# EAGLE library part ADUM4150ARIZ (library ADUM4150ARIZ)
5kV, 6-Channel, SPIsolator Digital Isolator for SPI with Delay Clock Source: Datasheet <https://www.analog.com/ADUM4150/datasheet>
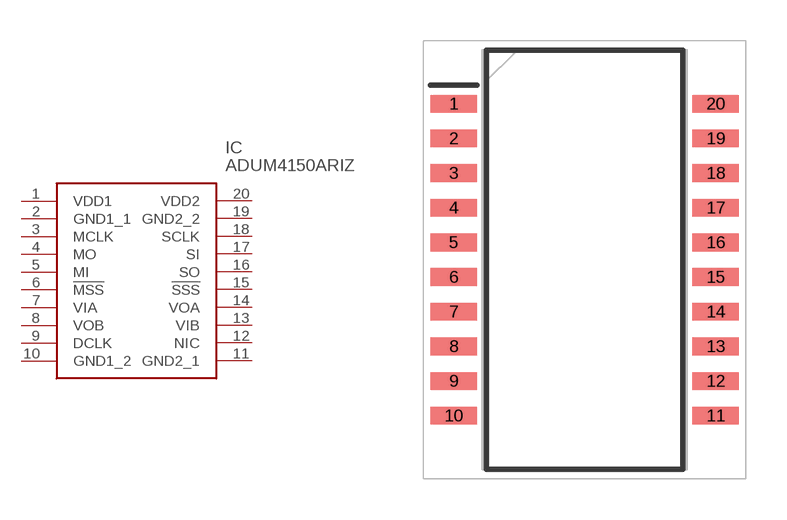
[diagram p0: symbol with the pads of SOIC127P1030X264-20N; footprint SOIC127P1030X264-20N]

Designator prefix IC

## ADUM4150ARIZ (Arrow_Part_Number: ADUM4150ARIZ; Arrow_Price-Stock: https://www.arrow.com/en/products/adum4150ariz/analog-devices?region=europe; Description: 5kV, 6-Channel, SPIsolator Digital Isolator for SPI with Delay Clock; Height: 2.64mm; Manufacturer_Name: Analog Devices; Manufacturer_Part_Number: ADUM4150ARIZ; Mouser_Part_Number: 584-ADUM4150ARIZ; Mouser_Price-Stock: https://www.mouser.co.uk/ProductDetail/Analog-Devices/ADUM4150ARIZ?qs=iCT64eccu7g5leq3YKn5uw%3D%3D)  [SOIC127P1030X264-20N]
1  VDD1
2  GND1_1
3  MCLK
4  MO
5  MI
6  !MSS
7  VIA
8  VOB
9  DCLK
10  GND1_2
11  GND2_1
12  NIC
13  VIB
14  VOA
15  !SSS
16  SO
17  SI
18  SCLK
19  GND2_2
20  VDD2

## Footprint SOIC127P1030X264-20N (pad centres in mm)
SOIC INCREASED CREEPAGE
smd 1.7 x 0.65: 1 -4.8,5.715; 2 -4.8,4.445; 3 -4.8,3.175; 4 -4.8,1.905; 5 -4.8,0.635; 6 -4.8,-0.635; 7 -4.8,-1.905; 8 -4.8,-3.175; 9 -4.8,-4.445; 10 -4.8,-5.715; 11 4.8,-5.715; 12 4.8,-4.445; 13 4.8,-3.175; 14 4.8,-1.905; 15 4.8,-0.635; 16 4.8,0.635; 17 4.8,1.905; 18 4.8,3.175; 19 4.8,4.445; 20 4.8,5.715